# Altium schematic symbol library res_array_4.Schlib: 1 symbol
Pins are listed as number, name and electrical type; pins without a type are passive.

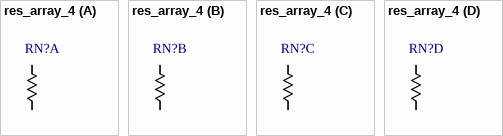
[diagram p0: symbol res_array_4]

## res_array_4
designator RN?  (value not drawn)
Resistor Network, 4 elements
part A pins: 1, 8
part B pins: 2, 7
part C pins: 3, 6
part D pins: 4, 5